# EAGLE library part J0011D21B (library con-j0011d21b)
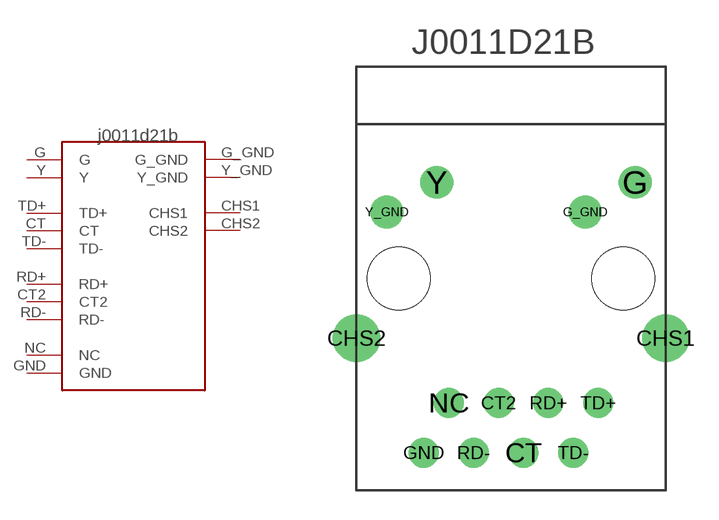
[diagram p0: symbol with the pads of J0011D21B; footprint J0011D21B]

Designator prefix -

## J0011D21B  [J0011D21B]
CHS1  CHS1
CHS2  CHS2
CT  CT
CT2  CT2
G  G
G_GND  G_GND
GND  GND
NC  NC
RD+  RD+
RD-  RD-
TD+  TD+
TD-  TD-
Y  Y
Y_GND  Y_GND

## Footprint J0011D21B (pad centres in mm)
Ethernet connector J0011D21B PulseJack ( www.pulseeng.com )
drill 1.6 round: CHS1 7.874,-3.048; CHS2 -7.874,-3.048
drill 0.889 pad 1.524 round: CT 0.635,-8.89; CT2 -0.635,-6.35; GND -4.445,-8.89; NC -3.175,-6.35; RD+ 1.905,-6.35; RD- -1.905,-8.89; TD+ 4.445,-6.35; TD- 3.175,-8.89
drill 1.016 pad 1.676 round: G 6.325,4.902; G_GND 3.785,3.378; Y -3.785,4.902; Y_GND -6.325,3.378
hole 3.2 at -5.715,0
hole 3.2 at 5.715,0